# Altium footprint library IND-1207.PcbLib: 1 footprints
Each footprint in its own frame and in the unit in brackets; x right, y up, seen from the top. Pads: shape width x height; smd on the part's side, far side on the other; paste and mask are expansions set on the pad; w line width, h text height; cw(c..) or ccw(c..) is an arc to the next point about the centre after c.
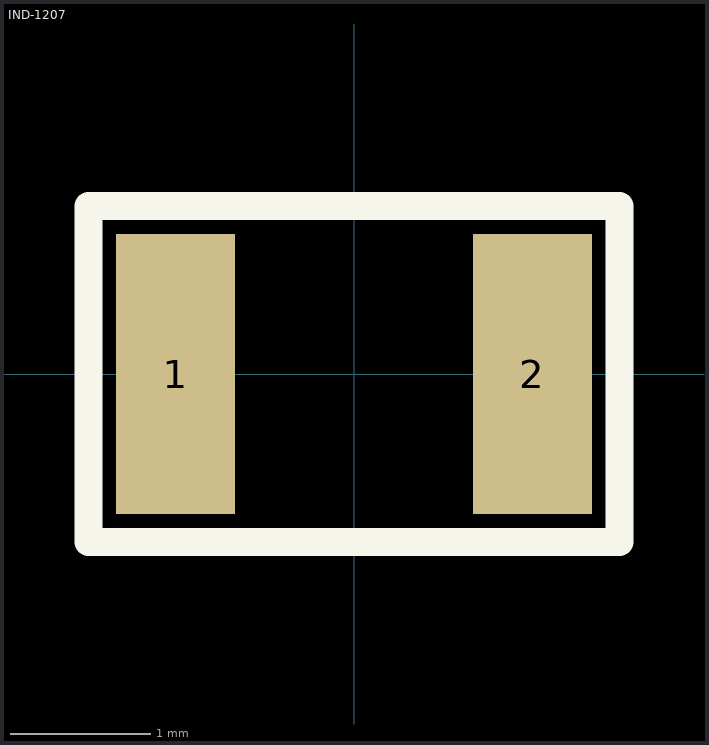
[diagram p0: the footprint, top view; thin cyan lines are the x and y axes]

## IND-1207 [mm]
height 0.55
pads (2):
  rect 0.85x2 smd: 1(-1.275,0) 2(1.275,0)
Top Overlay:
  lines w0.2: -1.9,-1.2 1.9,-1.2 1.9,1.2 -1.9,1.2 -1.9,-1.2
Top Assembly:
  lines w0.1: -1.9,-1.2 1.9,-1.2 1.9,1.2 -1.9,1.2 -1.9,-1.2
  text "'.Designator'" at -0.975,-0.35 h0.7
3D body "User Library-Vhip cap 1206.step": height 1.67, standoff -0.07, extent -1.6,-0.85 1.6,0.85